# Altium schematic symbol library STM32L476VE.SchLib: 25 symbols
Pins are listed as number, name and electrical type; pins without a type are passive.

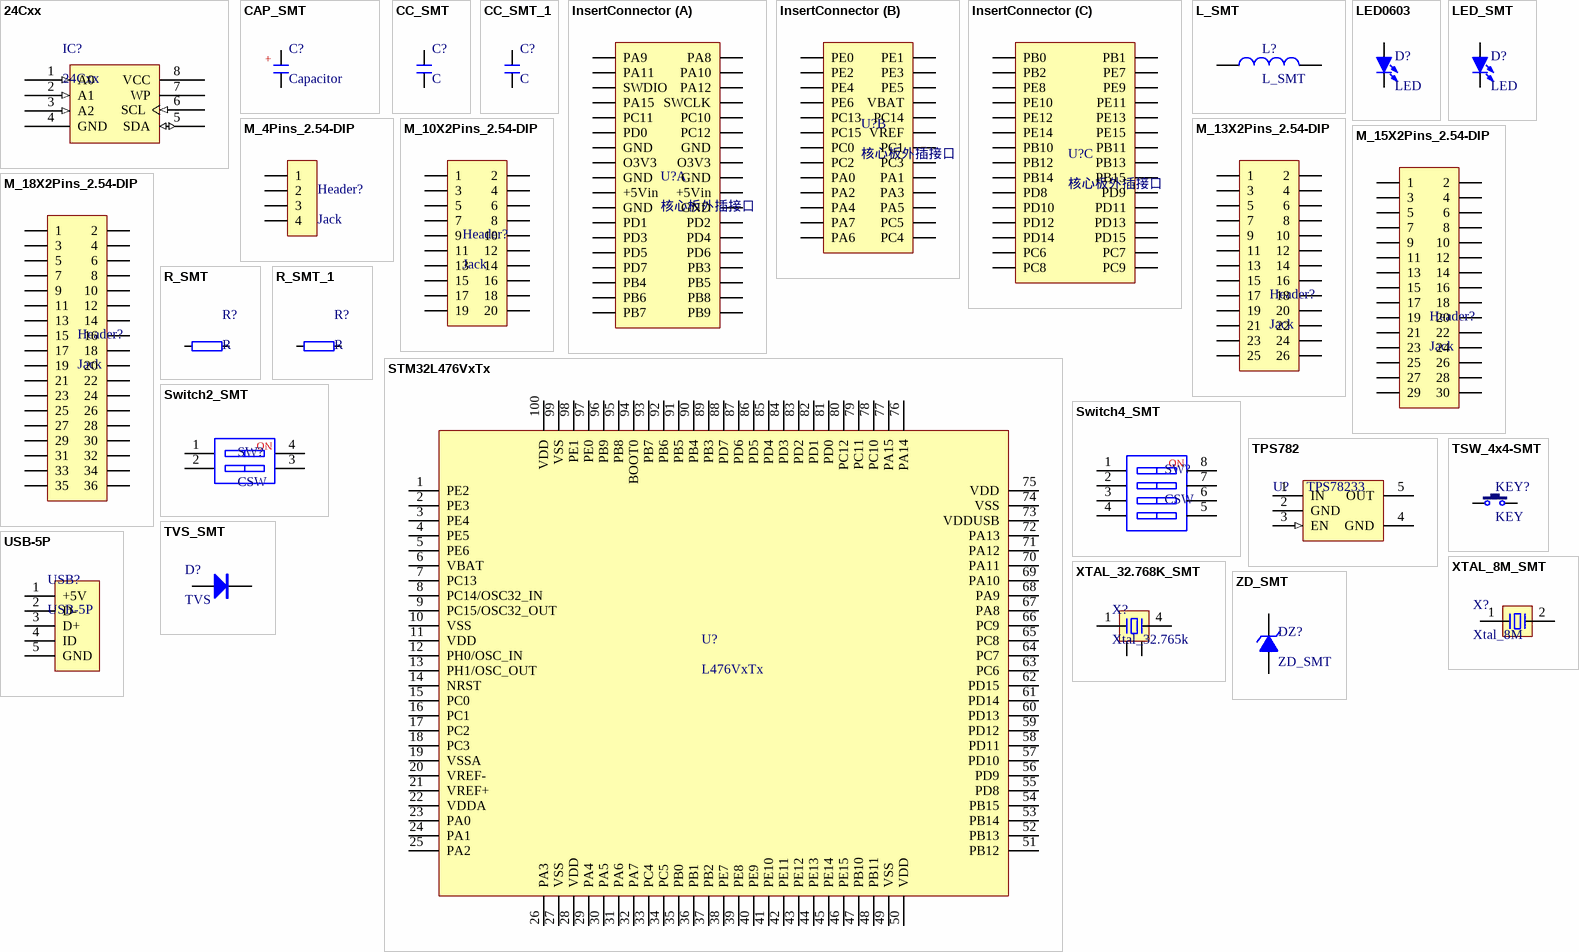
[diagram p0: symbols 24Cxx to ZD_SMT]

## 24Cxx
designator IC?
外置EEPROM; 版权归属: 源创客; BOM名称: 外置EEPROM; 学习资源: www.ooocke.com
footprint SOIC-8_150mil
pins: 1 A0 (in), 2 A1 (in), 3 A2 (in), 4 GND, 5 SDA (io), 6 SCL (in), 7 WP, 8 VCC (power)

## CAP_SMT
designator C?, comment Capacitor
Capacitor_SMT
footprint CAP5 (直径5mm)
pins: 1, 2
text: +

## CC_SMT
designator C?, comment C
SMT0603
footprint 0603_R
pins: 1, 2

## CC_SMT_1
designator C?, comment C
SMT0805
footprint 0805C (2.0mmx1.2mm（蒜米工坊）)
pins: 1, 2

## InsertConnector
designator U?, comment 核心板外插接口
footprint InsertConnector (核心板安装到其他板子上用的接口)
part A pins: 1 PA9, 2 PA8, 3 PA11, 4 PA10, 5 SWDIO, 6 PA12, 7 PA15, 8 SWCLK, 9 PC11, 10 PC10, 11 PD0, 12 PC12, 13 GND, 14 GND, 15 O3V3, 16 O3V3, 17 GND, 18 GND, 19 +5Vin, 20 +5Vin, 21 GND, 22 GND, 23 PD1, 24 PD2, 25 PD3, 26 PD4, 27 PD5, 28 PD6, 29 PD7, 30 PB3, 31 PB4, 32 PB5, 33 PB6, 34 PB8, 35 PB7, 36 PB9
part B pins: 37 PE0, 38 PE1, 39 PE2, 40 PE3, 41 PE4, 42 PE5, 43 PE6, 44 VBAT, 45 PC13, 46 PC14, 47 PC15, 48 VREF, 49 PC0, 50 PC1, 51 PC2, 52 PC3, 53 PA0, 54 PA1, 55 PA2, 56 PA3, 57 PA4, 58 PA5, 59 PA7, 60 PC5, 61 PA6, 62 PC4
part C pins: 63 PB0, 64 PB1, 65 PB2, 66 PE7, 67 PE8, 68 PE9, 69 PE10, 70 PE11, 71 PE12, 72 PE13, 73 PE14, 74 PE15, 75 PB10, 76 PB11, 77 PB12, 78 PB13, 79 PB14, 80 PB15, 81 PD8, 82 PD9, 83 PD10, 84 PD11, 85 PD12, 86 PD13, 87 PD14, 88 PD15, 89 PC6, 90 PC7, 91 PC8, 92 PC9

## L_SMT
designator L?
SMT_0603
footprint L 0603 (小功率贴片电感)
pins: 1, 2

## LED0603
designator D?, comment LED
LED_0603
footprint LED0603 (LED 0603)
pins: 1 A, 2 K

## LED_SMT
designator D?, comment LED
LED_0603
footprint 0603_LED_S3
pins: 1 A, 2 K

## M_4Pins_2.54-DIP
designator Header?, comment Jack
Header Male
footprint HDR2.54-LI-4P (排针，4脚)
pins: 1, 2, 3, 4

## M_10X2Pins_2.54-DIP
designator Header?, comment Jack
Header Male
footprint HDR2.54-LI-2x10P (双排排针，10x2脚)
pins: 1, 2, 3, 4, 5, 6, 7, 8, 9, 10, 11, 12, 13, 14, 15, 16, 17, 18, 19, 20

## M_13X2Pins_2.54-DIP
designator Header?, comment Jack
Header Male
footprint HDR2.54-LI-2x13P (双排排针，13x2脚)
pins: 1, 2, 3, 4, 5, 6, 7, 8, 9, 10, 11, 12, 13, 14, 15, 16, 17, 18, 19, 20, 21, 22, 23, 24, 25, 26

## M_15X2Pins_2.54-DIP
designator Header?, comment Jack
Header Male
footprint HDR2.54-LI-2x15P (双排排针，15x2脚)
pins: 1, 2, 3, 4, 5, 6, 7, 8, 9, 10, 11, 12, 13, 14, 15, 16, 17, 18, 19, 20, 21, 22, 23, 24, 25, 26, 27, 28, 29, 30

## M_18X2Pins_2.54-DIP
designator Header?, comment Jack
Header Male
footprint HDR2.54-LI-2x18P (双排排针，18x2脚)
pins: 1, 2, 3, 4, 5, 6, 7, 8, 9, 10, 11, 12, 13, 14, 15, 16, 17, 18, 19, 20, 21, 22, 23, 24, 25, 26, 27, 28, 29, 30, 31, 32, 33, 34, 35, 36

## R_SMT
designator R?, comment R
SMT_0603
footprint 0603_R
pins: 1, 2

## R_SMT_1
designator R?, comment R
SMT_0805
footprint 0805C (2.0mmx1.2mm（蒜米工坊）)
pins: 1, 2

## STM32L476VxTx
designator U?, comment L476VxTx
footprint LQFP-100_14x14x05P
pins: 1 PE2, 2 PE3, 3 PE4, 4 PE5, 5 PE6, 6 VBAT, 7 PC13, 8 PC14/OSC32_IN, 9 PC15/OSC32_OUT, 10 VSS, 11 VDD, 12 PH0/OSC_IN, 13 PH1/OSC_OUT, 14 NRST, 15 PC0, 16 PC1, 17 PC2, 18 PC3, 19 VSSA, 20 VREF-, 21 VREF+, 22 VDDA, 23 PA0, 24 PA1, 25 PA2, 26 PA3, 27 VSS, 28 VDD, 29 PA4, 30 PA5, 31 PA6, 32 PA7, 33 PC4, 34 PC5, 35 PB0, 36 PB1, 37 PB2, 38 PE7, 39 PE8, 40 PE9, 41 PE10, 42 PE11, 43 PE12, 44 PE13, 45 PE14, 46 PE15, 47 PB10, 48 PB11, 49 VSS, 50 VDD, 51 PB12, 52 PB13, 53 PB14, 54 PB15, 55 PD8, 56 PD9, 57 PD10, 58 PD11, 59 PD12, 60 PD13, 61 PD14, 62 PD15, 63 PC6, 64 PC7, 65 PC8, 66 PC9, 67 PA8, 68 PA9, 69 PA10, 70 PA11, 71 PA12, 72 PA13, 73 VDDUSB, 74 VSS, 75 VDD, 76 PA14, 77 PA15, 78 PC10, 79 PC11, 80 PC12, 81 PD0, 82 PD1, 83 PD2, 84 PD3, 85 PD4, 86 PD5, 87 PD6, 88 PD7, 89 PB3, 90 PB4, 91 PB5, 92 PB6, 93 PB7, 94 BOOT0, 95 PB8, 96 PB9, 97 PE0, 98 PE1, 99 VSS, 100 VDD

## Switch2_SMT
designator SW?, comment CSW
DialSwitch
footprint CSW1.27 SMD-2P (长：4.14mm，宽：5.4mm，高：2.3mm)
pins: 1, 2, 3, 4
text: NO

## Switch4_SMT
designator SW?, comment CSW
DialSwitch
footprint CSW1.27 SMD-4P (长：6.68mm，宽：5.4mm，高：2.3mm)
pins: 1, 2, 3, 4, 5, 6, 7, 8
text: NO

## TPS782
designator U?, comment TPS78233
Regulator_SMT; BOM名称: 可调升压芯片; 版权归属: 源创客; 学习资源: www.ooocke.com
footprint SOT23-5L (3x1.6x1.1mm(长宽高))
pins: 1 IN, 2 GND, 3 EN (in), 4 GND, 5 OUT

## TSW_4x4-SMT
designator KEY?, comment KEY
Tact Switch
footprint TSW SMD-4*4*1.5 (轻触开关，长宽高：4*4*1.5mm)
pins: 1, 2

## TVS_SMT
designator D?, comment TVS
TVS Diode; BOM名称: 肖特基二极管; 版权归属: 源创客; 属性: 40V/2A; 学习资源: www.ooocke.com
footprint SMB(DO-214AA)_S3
pins: 1 A, 2 K

## USB-5P
designator USB?
USB_SMT; BOM名称: 微型USB母座; 版权归属: 源创客; 学习资源: www.ooocke.com
footprint USB-MICRO_E (micro型USB ，5.9*8.2*2.5mm)
pins: 1 +5V, 2 D-, 3 D+, 4 ID, 5 GND

## XTAL_8M_SMT
designator X?, comment Xtal_8M
BOM名称: 4脚无源晶振; 版权归属: 源创客; 学习资源: www.ooocke.com
footprint SMD-5032_2P
pins: 1, 2

## XTAL_32.768K_SMT
designator X?, comment Xtal_32.765k
Xtal_32.768k; BOM名称: 2脚无源脚晶振; 版权归属: 源创客; 学习资源: www.ooocke.com
footprint OSC MC-306 (8mm*3.2mm*2.54mm(长*宽*高))
pins: 1, 2, 3, 4

## ZD_SMT
designator DZ?
Zener
footprint MINI_MELF (LL34) (1.5*3.4mm(直径，脚距）)
pins: 1 A, 2 K